# Altium schematic symbol library DCDC_MODULE.SchLib: 1 symbol
Pins are listed as number, name and electrical type; pins without a type are passive.

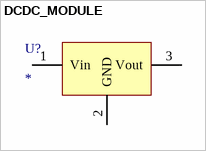
[diagram p0: symbol DCDC_MODULE]

## DCDC_MODULE
designator U?
Value: *
pins: 1 Vin (power), 2 GND (power), 3 Vout (power)